# EAGLE library part TC58CVG1S3HRAIG (library Conservify)
Serial Interface NAND
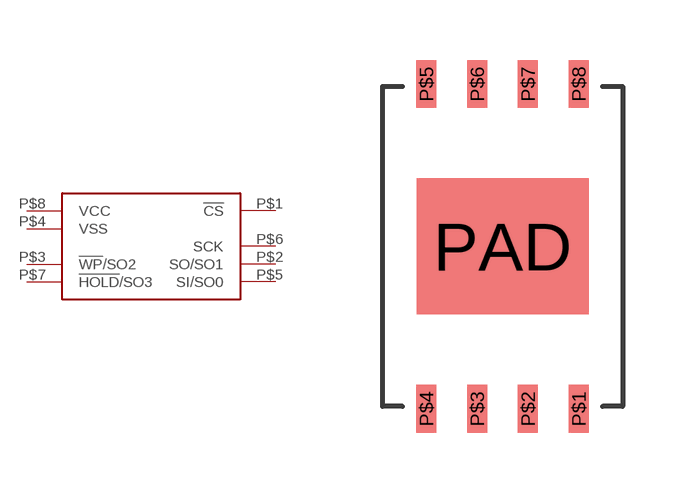
[diagram p3: symbol with the pads of WSON8; footprint WSON8]

Designator prefix -

## TC58CVG1S3HRAIG  [WSON8]
P$1  !CS
P$2  SO/SO1
P$3  !WP!/SO2
P$4  VSS
P$5  SI/SO0
P$6  SCK
P$7  !HOLD!/SO3
P$8  VCC

## Footprint WSON8 (pad centres in mm)
smd 0.5 x 1.2: P$1 1.905,-4.06; P$2 0.635,-4.06; P$3 -0.635,-4.06; P$4 -1.905,-4.06; P$5 -1.905,4.06; P$6 -0.635,4.06; P$7 0.635,4.06; P$8 1.905,4.06
smd 4.3 x 3.4: PAD 0,0